# EAGLE library part SN65HVD230 (library Custom_new)
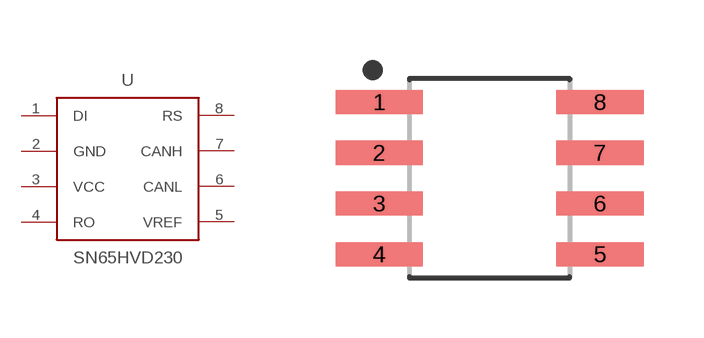
[diagram p13: symbol with the pads of SOIC127P650X175-8; footprint SOIC127P650X175-8]

Designator prefix -

## SN65HVD230SOIC-8  [SOIC127P650X175-8]
1  DI  in
2  GND  pwr
3  VCC  pwr
4  RO  out
5  VREF  out
6  CANL
7  CANH
8  RS  in

## Footprint SOIC127P650X175-8 (pad centres in mm)
8-SOIC, 1.27 mm pitch, 6.50 mm span, 5.00 X 3.90 X 1.75 mm body 8-pin SOIC package with 1.27 mm pitch, 6.50 mm span with body size 5.00 X 3.90 X 1.75 mm
smd 2.187 x 0.602: 1 -2.76,1.905; 2 -2.76,0.635; 3 -2.76,-0.635; 4 -2.76,-1.905; 5 2.76,-1.905; 6 2.76,-0.635; 7 2.76,0.635; 8 2.76,1.905